# Altium schematic symbol library SCH - DRIVER - LED - TI TLC5971_RGE_24.SchLib: 1 symbol
Pins are listed as number, name and electrical type; pins without a type are passive.

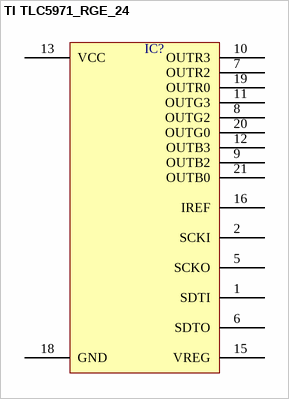
[diagram p0: symbol TI TLC5971_RGE_24]

## TI TLC5971_RGE_24
designator IC?  (value not drawn)
pins: 1 SDTI, 2 SCKI, 5 SCKO, 6 SDTO, 7 OUTR2, 8 OUTG2, 9 OUTB2, 10 OUTR3, 11 OUTG3, 12 OUTB3, 13 VCC, 15 VREG, 16 IREF, 18 GND, 19 OUTR0, 20 OUTG0, 21 OUTB0